# EAGLE library part TEXAS_INSTRUMENTS_TUSB320IRWBR (library OTG_C)
USB Interface 12-X2QFN (1.6x1.6)
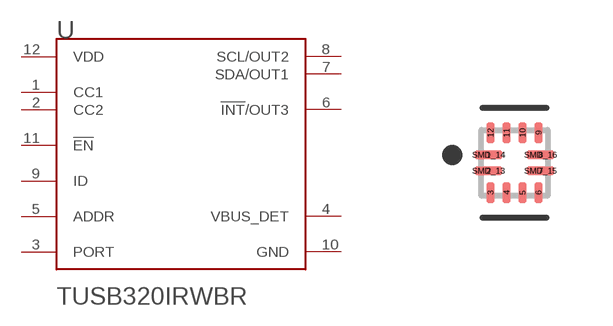
[diagram p5: symbol with the pads of TEXAS_INSTRUMENTS_TUSB320IRWBR_0; footprint TEXAS_INSTRUMENTS_TUSB320IRWBR_0]

Designator prefix U

## TEXAS_INSTRUMENTS_TUSB320IRWBRTEXAS_INSTRUMENTS_TUSB320IRWBR_0_0 (AMBIENT_TEMPERATURE_RANGE_HIGH: +85°C; AMBIENT_TEMPERATURE_RANGE_LOW: -40°C; AUTOMOTIVE: No; CENTROID_NOT_SPECIFIED: No; DATASHEET: https://www.ti.com/lit/ds/symlink/tusb320.pdf?ts=1599660609573&ref_url=https%253A%252F%252Fwww.ti.com%252Fproduct%252FTUSB320%253FkeyMatch%253DTUSB320IRWBR%2526tisearch%253DSearch-EN-everything%2526usecase%253DOPN; DEVICE_CLASS_L1: Integrated Circuits (ICs); DEVICE_CLASS_L2: Interface ICs; DEVICE_CLASS_L3: USB Interface ICs; DIGIKEY_DESCRIPTION: IC INTERFACE SPECIALIZED 12X2QFN; DIGIKEY_PART_NUMBER: 296-42175-1-ND; FOOTPRINT_VARIANT_NAME_0: Recommended_Land_Pattern; HEIGHT: 0.4mm; INTERFACE: I2C,USB; LEAD_FREE: Yes; MAX_SUPPLY_VOLTAGE: 5V; MF: Texas Instruments; MFG_PACKAGE_IDENT: RWB0012A; MFG_PACKAGE_IDENT_COMPONENT_ID: 916ec89def4d98cc; MFG_PACKAGE_IDENT_DATE: 0; MFG_PACKAGE_IDENT_REV: 0; MIN_SUPPLY_VOLTAGE: 2.7V; MOUSER_PART_NUMBER: 595-TUSB320IRWBR; MPN: TUSB320IRWBR; NOMINAL_SUPPLY_CURRENT: 100uA; NUMBER_OF_PORTS: 1; PACKAGE: X2QFN12; PREFIX: U; ROHS: Yes; STANDOFF_HEIGHT: 0mm; TEMPERATURE_RANGE_HIGH: +85°C; TEMPERATURE_RANGE_LOW: -40°C; USB_STANDARD: USB 2.0; VERIFICATION_VERSION: 0.0.0.3)  [TEXAS_INSTRUMENTS_TUSB320IRWBR_0]
1  CC1
2  CC2
3  PORT
4  VBUS_DET  in
5  ADDR  in
6  !INT!/OUT3
7  SDA/OUT1
8  SCL/OUT2
9  ID  out
10  GND  pwr
11  !EN!  in
12  VDD  pwr

## Footprint TEXAS_INSTRUMENTS_TUSB320IRWBR_0 (pad centres in mm)
USB Interface 12-X2QFN (1.6x1.6)
smd 0.7 x 0.2: 1 -0.65,0.2; 2 -0.65,-0.2; 7 0.65,-0.2; 8 0.65,0.2
smd 0.2 x 0.5: 3 -0.6,-0.75; 4 -0.2,-0.75; 5 0.2,-0.75; 6 0.6,-0.75; 9 0.6,0.75; 10 0.2,0.75; 11 -0.2,0.75; 12 -0.6,0.75
smd 0.67 x 0.2: SMD_13 -0.65,-0.2; SMD_14 -0.65,0.2; SMD_15 0.65,-0.2; SMD_16 0.65,0.2